# Altium footprint library J 接插件.PcbLib: 458 footprints (part 13 of 29)
Each footprint in its own frame and in the unit in brackets; x right, y up, seen from the top. Pads: shape width x height; smd on the part's side, far side on the other; paste and mask are expansions set on the pad; w line width, h text height; cw(c..) or ccw(c..) is an arc to the next point about the centre after c.
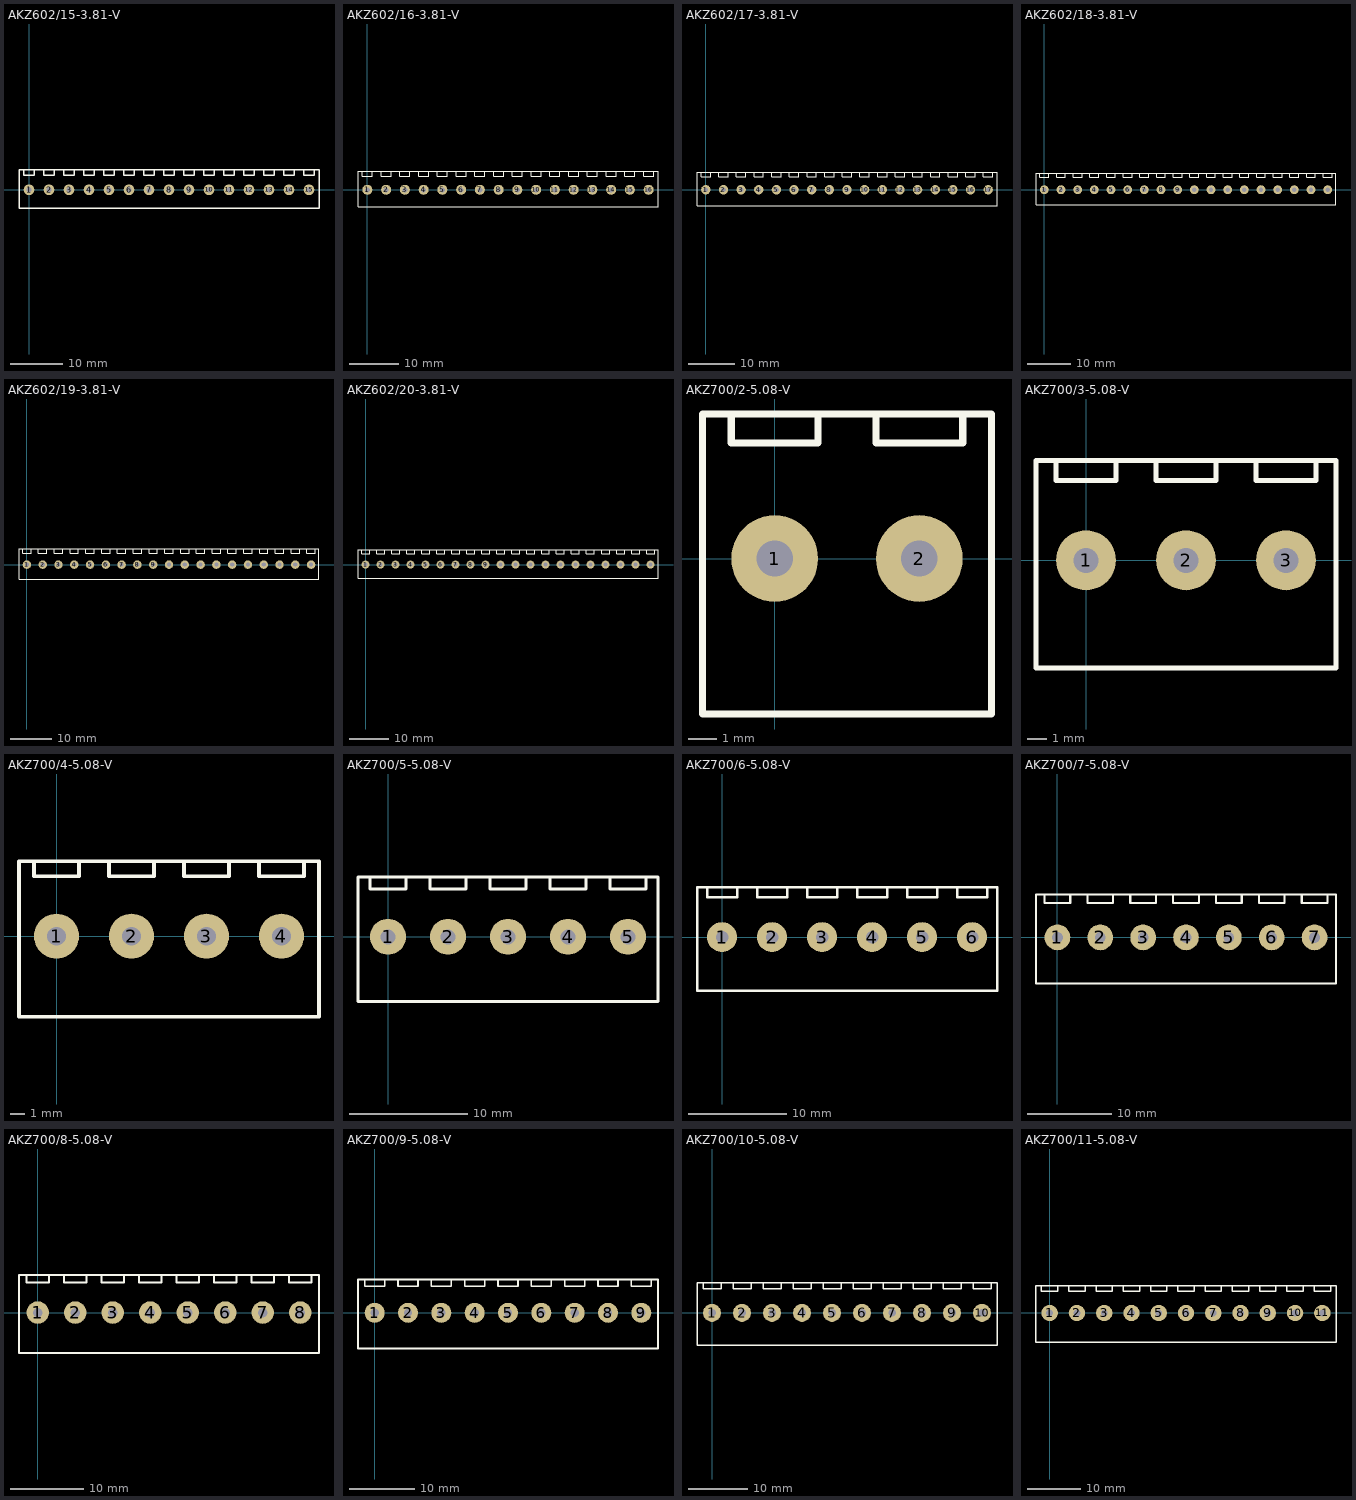
[diagram p12: the footprints below, top view; thin cyan lines are the x and y axes]

## AKZ602/15-3.81-V [mil] "美卡诺 AKZ602 接触件 间距：3.81   15Pin"
height 393.7
pads (15):
  round 80 hole 40: 1(0,0) 2(150,0) 3(300,0) 4(450,0) 5(600,0) 6(750,0) 7(900,0) 8(1050,0) 9(1200,0) 10(1350,0) 11(1500,0) 12(1650,0) 13(1800,0) 14(1950,0) 15(2100,0)
Top Overlay:
  lines w10: -40,150 -40,110 40,110 40,150 ; 110,150 110,110 190,110 190,150 ; 260,150 260,110 340,110 340,150 ; 410,150 410,110 490,110 490,150 ; 560,150 560,110 640,110 640,150 ; 710,150 710,110 790,110 790,150 ; 860,150 860,110 940,110 940,150 ; 1010,150 1010,110 1090,110 1090,150 ; 1160,150 1160,110 1240,110 1240,150 ; 1310,150 1310,110 1390,110 1390,150 ; 1460,150 1460,110 1540,110 1540,150 ; 1610,150 1610,110 1690,110 1690,150 ; 1760,150 1760,110 1840,110 1840,150 ; 1910,150 1910,110 1990,110 1990,150 ; 2060,150 2060,110 2140,110 2140,150 ; -75,-137.8 -75,0 -75,150 2175,150 2175,-137.8 -75,-137.8

## AKZ602/16-3.81-V [mil] "美卡诺 AKZ602 接触件 间距：3.81   16Pin"
height 393.7
pads (16):
  round 80 hole 40: 1(0,0) 2(150,0) 3(300,0) 4(450,0) 5(600,0) 6(750,0) 7(900,0) 8(1050,0) 9(1200,0) 10(1350,0) 11(1500,0) 12(1650,0) 13(1800,0) 14(1950,0) 15(2100,0) 16(2250,0)
Top Overlay:
  lines w10: -40,150 -40,110 40,110 40,150 ; 110,150 110,110 190,110 190,150 ; 260,150 260,110 340,110 340,150 ; 410,150 410,110 490,110 490,150 ; 560,150 560,110 640,110 640,150 ; 710,150 710,110 790,110 790,150 ; 860,150 860,110 940,110 940,150 ; 1010,150 1010,110 1090,110 1090,150 ; 1160,150 1160,110 1240,110 1240,150 ; 1310,150 1310,110 1390,110 1390,150 ; 1460,150 1460,110 1540,110 1540,150 ; 1610,150 1610,110 1690,110 1690,150 ; 1760,150 1760,110 1840,110 1840,150 ; 1910,150 1910,110 1990,110 1990,150 ; 2060,150 2060,110 2140,110 2140,150 ; 2210,150 2210,110 2290,110 2290,150 ; -75,-137.8 2325,-137.8 2325,150 -75,150 -75,0 -75,-137.8

## AKZ602/17-3.81-V [mil] "美卡诺 AKZ602 接触件 间距：3.81   17Pin"
height 393.7
pads (17):
  round 80 hole 40: 1(0,0) 2(150,0) 3(300,0) 4(450,0) 5(600,0) 6(750,0) 7(900,0) 8(1050,0) 9(1200,0) 10(1350,0) 11(1500,0) 12(1650,0) 13(1800,0) 14(1950,0) 15(2100,0) 16(2250,0) 17(2400,0)
Top Overlay:
  lines w10: -40,150 -40,110 40,110 40,150 ; 110,150 110,110 190,110 190,150 ; 260,150 260,110 340,110 340,150 ; 410,150 410,110 490,110 490,150 ; 560,150 560,110 640,110 640,150 ; 710,150 710,110 790,110 790,150 ; 860,150 860,110 940,110 940,150 ; 1010,150 1010,110 1090,110 1090,150 ; 1160,150 1160,110 1240,110 1240,150 ; 1310,150 1310,110 1390,110 1390,150 ; 1460,150 1460,110 1540,110 1540,150 ; 1610,150 1610,110 1690,110 1690,150 ; 1760,150 1760,110 1840,110 1840,150 ; 1910,150 1910,110 1990,110 1990,150 ; 2060,150 2060,110 2140,110 2140,150 ; 2210,150 2210,110 2290,110 2290,150 ; 2360,150 2360,110 2440,110 2440,150 ; -75,-137.8 2475,-137.8 2475,150 -75,150 -75,0 -75,-137.8

## AKZ602/18-3.81-V [mil] "美卡诺 AKZ602 接触件 间距：3.81   18Pin"
height 393.7
pads (18):
  round 80 hole 40: 1(0,0) 2(150,0) 3(300,0) 4(450,0) 5(600,0) 6(750,0) 7(900,0) 8(1050,0) 9(1200,0) 10(1350,0) 11(1500,0) 12(1650,0) 13(1800,0) 14(1950,0) 15(2100,0) 16(2250,0) 17(2400,0) 18(2550,0)
Top Overlay:
  lines w10: -40,150 -40,110 40,110 40,150 ; 110,150 110,110 190,110 190,150 ; 260,150 260,110 340,110 340,150 ; 410,150 410,110 490,110 490,150 ; 560,150 560,110 640,110 640,150 ; 710,150 710,110 790,110 790,150 ; 860,150 860,110 940,110 940,150 ; 1010,150 1010,110 1090,110 1090,150 ; 1160,150 1160,110 1240,110 1240,150 ; 1310,150 1310,110 1390,110 1390,150 ; 1460,150 1460,110 1540,110 1540,150 ; 1610,150 1610,110 1690,110 1690,150 ; 1760,150 1760,110 1840,110 1840,150 ; 1910,150 1910,110 1990,110 1990,150 ; 2060,150 2060,110 2140,110 2140,150 ; 2210,150 2210,110 2290,110 2290,150 ; 2360,150 2360,110 2440,110 2440,150 ; 2510,150 2510,110 2590,110 2590,150 ; -75,-137.8 -75,0 -75,150 2625,150 2625,-137.8 -75,-137.8

## AKZ602/19-3.81-V [mil] "美卡诺 AKZ602 接触件 间距：3.81   19Pin"
height 393.7
pads (19):
  round 80 hole 40: 1(0,0) 2(150,0) 3(300,0) 4(450,0) 5(600,0) 6(750,0) 7(900,0) 8(1050,0) 9(1200,0) 10(1350,0) 11(1500,0) 12(1650,0) 13(1800,0) 14(1950,0) 15(2100,0) 16(2250,0) 17(2400,0) 18(2550,0) 19(2700,0)
Top Overlay:
  lines w10: -40,150 -40,110 40,110 40,150 ; 110,150 110,110 190,110 190,150 ; 260,150 260,110 340,110 340,150 ; 410,150 410,110 490,110 490,150 ; 560,150 560,110 640,110 640,150 ; 710,150 710,110 790,110 790,150 ; 860,150 860,110 940,110 940,150 ; 1010,150 1010,110 1090,110 1090,150 ; 1160,150 1160,110 1240,110 1240,150 ; 1310,150 1310,110 1390,110 1390,150 ; 1460,150 1460,110 1540,110 1540,150 ; 1610,150 1610,110 1690,110 1690,150 ; 1760,150 1760,110 1840,110 1840,150 ; 1910,150 1910,110 1990,110 1990,150 ; 2060,150 2060,110 2140,110 2140,150 ; 2210,150 2210,110 2290,110 2290,150 ; 2360,150 2360,110 2440,110 2440,150 ; 2510,150 2510,110 2590,110 2590,150 ; 2660,150 2660,110 2740,110 2740,150 ; -75,-137.8 2775,-137.8 2775,150 -75,150 -75,0 -75,-137.8

## AKZ602/20-3.81-V [mil] "美卡诺 AKZ602 接触件 间距：3.81   20Pin"
height 393.7
pads (20):
  round 80 hole 40: 1(0,0) 2(150,0) 3(300,0) 4(450,0) 5(600,0) 6(750,0) 7(900,0) 8(1050,0) 9(1200,0) 10(1350,0) 11(1500,0) 12(1650,0) 13(1800,0) 14(1950,0) 15(2100,0) 16(2250,0) 17(2400,0) 18(2550,0) 19(2700,0) 20(2850,0)
Top Overlay:
  lines w10: -40,150 -40,110 40,110 40,150 ; 110,150 110,110 190,110 190,150 ; 260,150 260,110 340,110 340,150 ; 410,150 410,110 490,110 490,150 ; 560,150 560,110 640,110 640,150 ; 710,150 710,110 790,110 790,150 ; 860,150 860,110 940,110 940,150 ; 1010,150 1010,110 1090,110 1090,150 ; 1160,150 1160,110 1240,110 1240,150 ; 1310,150 1310,110 1390,110 1390,150 ; 1460,150 1460,110 1540,110 1540,150 ; 1610,150 1610,110 1690,110 1690,150 ; 1760,150 1760,110 1840,110 1840,150 ; 1910,150 1910,110 1990,110 1990,150 ; 2060,150 2060,110 2140,110 2140,150 ; 2210,150 2210,110 2290,110 2290,150 ; 2360,150 2360,110 2440,110 2440,150 ; 2510,150 2510,110 2590,110 2590,150 ; 2660,150 2660,110 2740,110 2740,150 ; 2810,150 2810,110 2890,110 2890,150 ; -75,-137.8 -75,0 -75,150 2925,150 2925,-137.8 -75,-137.8

## AKZ700/2-5.08-V [mil] "美卡诺 AKZ700 接触件 间距：5.08   2Pin"
height 748.03
pads (2):
  round 120 hole 50: 1(0,0) 2(200,0)
Top Overlay:
  lines w10: -60,200 -60,160 60,160 60,200 ; 140,200 140,160 260,160 260,200 ; -100,-215 -100,200 300,200 300,-215 -100,-215

## AKZ700/3-5.08-V [mil] "美卡诺 AKZ700 接触件 间距：5.08   3Pin"
height 748.03
pads (3):
  round 120 hole 50: 1(0,0) 2(200,0) 3(400,0)
Top Overlay:
  lines w10: -60,200 -60,160 60,160 60,200 ; 140,200 140,160 260,160 260,200 ; 340,200 340,160 460,160 460,200 ; -100,-215 -100,200 500,200 500,-215 -100,-215

## AKZ700/4-5.08-V [mil] "美卡诺 AKZ700 接触件 间距：5.08   4Pin"
height 748.03
pads (4):
  round 120 hole 50: 1(0,0) 2(200,0) 3(400,0) 4(600,0)
Top Overlay:
  lines w10: -60,200 -60,160 60,160 60,200 ; 140,200 140,160 260,160 260,200 ; 340,200 340,160 460,160 460,200 ; 540,200 540,160 660,160 660,200 ; -100,-215 700,-215 700,200 -100,200 -100,-215

## AKZ700/5-5.08-V [mil] "美卡诺 AKZ700 接触件 间距：5.08   5Pin"
height 748.03
pads (5):
  round 120 hole 50: 1(0,0) 2(200,0) 3(400,0) 4(600,0) 5(800,0)
Top Overlay:
  lines w10: -60,200 -60,160 60,160 60,200 ; 140,200 140,160 260,160 260,200 ; 340,200 340,160 460,160 460,200 ; 540,200 540,160 660,160 660,200 ; 740,200 740,160 860,160 860,200 ; -100,-215 -100,200 900,200 900,-215 -100,-215

## AKZ700/6-5.08-V [mil] "美卡诺 AKZ700 接触件 间距：5.08   6Pin"
height 748.03
pads (6):
  round 120 hole 50: 1(0,0) 2(200,0) 3(400,0) 4(600,0) 5(800,0) 6(1000,0)
Top Overlay:
  lines w10: -60,200 -60,160 60,160 60,200 ; 140,200 140,160 260,160 260,200 ; 340,200 340,160 460,160 460,200 ; 540,200 540,160 660,160 660,200 ; 740,200 740,160 860,160 860,200 ; 940,200 940,160 1060,160 1060,200 ; -100,-215 1100,-215 1100,200 -100,200 -100,-215

## AKZ700/7-5.08-V [mil] "美卡诺 AKZ700 接触件 间距：5.08   7Pin"
height 748.03
pads (7):
  round 120 hole 50: 1(0,0) 2(200,0) 3(400,0) 4(600,0) 5(800,0) 6(1000,0) 7(1200,0)
Top Overlay:
  lines w10: -60,200 -60,160 60,160 60,200 ; 140,200 140,160 260,160 260,200 ; 340,200 340,160 460,160 460,200 ; 540,200 540,160 660,160 660,200 ; 740,200 740,160 860,160 860,200 ; 940,200 940,160 1060,160 1060,200 ; 1140,200 1140,160 1260,160 1260,200 ; -100,-215 1300,-215 1300,200 -100,200 -100,-215

## AKZ700/8-5.08-V [mil] "美卡诺 AKZ700 接触件 间距：5.08   8Pin"
height 748.03
pads (8):
  round 120 hole 50: 1(0,0) 2(200,0) 3(400,0) 4(600,0) 5(800,0) 6(1000,0) 7(1200,0) 8(1400,0)
Top Overlay:
  lines w10: -60,200 -60,160 60,160 60,200 ; 140,200 140,160 260,160 260,200 ; 340,200 340,160 460,160 460,200 ; 540,200 540,160 660,160 660,200 ; 740,200 740,160 860,160 860,200 ; 940,200 940,160 1060,160 1060,200 ; 1140,200 1140,160 1260,160 1260,200 ; 1340,200 1340,160 1460,160 1460,200 ; -100,-215 -100,200 1500,200 1500,-215 -100,-215

## AKZ700/9-5.08-V [mil] "美卡诺 AKZ700 接触件 间距：5.08   9Pin"
height 748.03
pads (9):
  round 120 hole 50: 1(0,0) 2(200,0) 3(400,0) 4(600,0) 5(800,0) 6(1000,0) 7(1200,0) 8(1400,0) 9(1600,0)
Top Overlay:
  lines w10: -60,200 -60,160 60,160 60,200 ; 140,200 140,160 260,160 260,200 ; 340,200 340,160 460,160 460,200 ; 540,200 540,160 660,160 660,200 ; 740,200 740,160 860,160 860,200 ; 940,200 940,160 1060,160 1060,200 ; 1140,200 1140,160 1260,160 1260,200 ; 1340,200 1340,160 1460,160 1460,200 ; 1540,200 1540,160 1660,160 1660,200 ; -100,-215 1700,-215 1700,200 -100,200 -100,-215

## AKZ700/10-5.08-V [mil] "美卡诺 AKZ700 接触件 间距：5.08   10Pin"
height 748.03
pads (10):
  round 120 hole 50: 1(0,0) 2(200,0) 3(400,0) 4(600,0) 5(800,0) 6(1000,0) 7(1200,0) 8(1400,0) 9(1600,0) 10(1800,0)
Top Overlay:
  lines w10: -60,200 -60,160 60,160 60,200 ; 140,200 140,160 260,160 260,200 ; 340,200 340,160 460,160 460,200 ; 540,200 540,160 660,160 660,200 ; 740,200 740,160 860,160 860,200 ; 940,200 940,160 1060,160 1060,200 ; 1140,200 1140,160 1260,160 1260,200 ; 1340,200 1340,160 1460,160 1460,200 ; 1540,200 1540,160 1660,160 1660,200 ; 1740,200 1740,160 1860,160 1860,200 ; -100,-215 1900,-215 1900,200 -100,200 -100,-215

## AKZ700/11-5.08-V [mil] "美卡诺 AKZ700 接触件 间距：5.08   11Pin"
height 748.03
pads (11):
  round 120 hole 50: 1(0,0) 2(200,0) 3(400,0) 4(600,0) 5(800,0) 6(1000,0) 7(1200,0) 8(1400,0) 9(1600,0) 10(1800,0) 11(2000,0)
Top Overlay:
  lines w10: -60,200 -60,160 60,160 60,200 ; 140,200 140,160 260,160 260,200 ; 340,200 340,160 460,160 460,200 ; 540,200 540,160 660,160 660,200 ; 740,200 740,160 860,160 860,200 ; 940,200 940,160 1060,160 1060,200 ; 1140,200 1140,160 1260,160 1260,200 ; 1340,200 1340,160 1460,160 1460,200 ; 1540,200 1540,160 1660,160 1660,200 ; 1740,200 1740,160 1860,160 1860,200 ; 1940,200 1940,160 2060,160 2060,200 ; -100,-215 -100,200 2100,200 2100,-215 -100,-215